# EAGLE library part NCS36000 (library openPIR-temp)
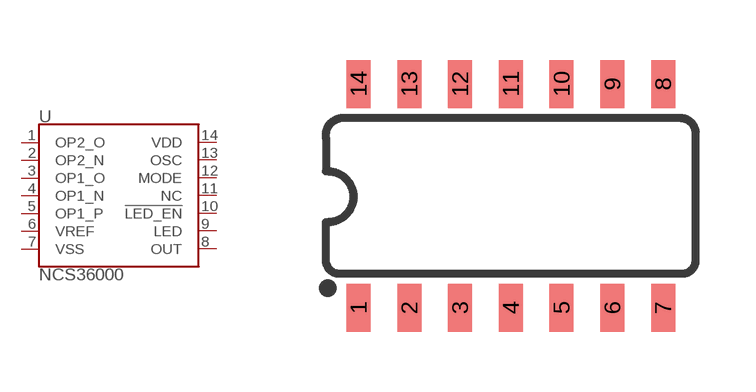
[diagram p0: symbol with the pads of SO14; footprint SO14]

Designator prefix U

## NCS36000 (PROD_ID: IC-13432)  [SO14]
1  OP2_O
2  OP2_N
3  OP1_O
4  OP1_N
5  OP1_P
6  VREF
7  VSS
8  OUT
9  LED
10  !LED_EN!
11  NC
12  MODE
13  OSC
14  VDD

## Footprint SO14 (pad centres in mm)
smd 0.6 x 1.2: 1 -3.81,-2.8; 2 -2.54,-2.8; 3 -1.27,-2.8; 4 0,-2.8; 5 1.27,-2.8; 6 2.54,-2.8; 7 3.81,-2.8; 8 3.81,2.8; 9 2.54,2.8; 10 1.27,2.8; 11 0,2.8; 12 -1.27,2.8; 13 -2.54,2.8; 14 -3.81,2.8